# Altium footprint library 4.01-2.00mm排针-排母.PcbLib: 40 footprints (part 3 of 3)
Each footprint in its own frame and in the unit in brackets; x right, y up, seen from the top. Pads: shape width x height; smd on the part's side, far side on the other; paste and mask are expansions set on the pad; w line width, h text height; cw(c..) or ccw(c..) is an arc to the next point about the centre after c.
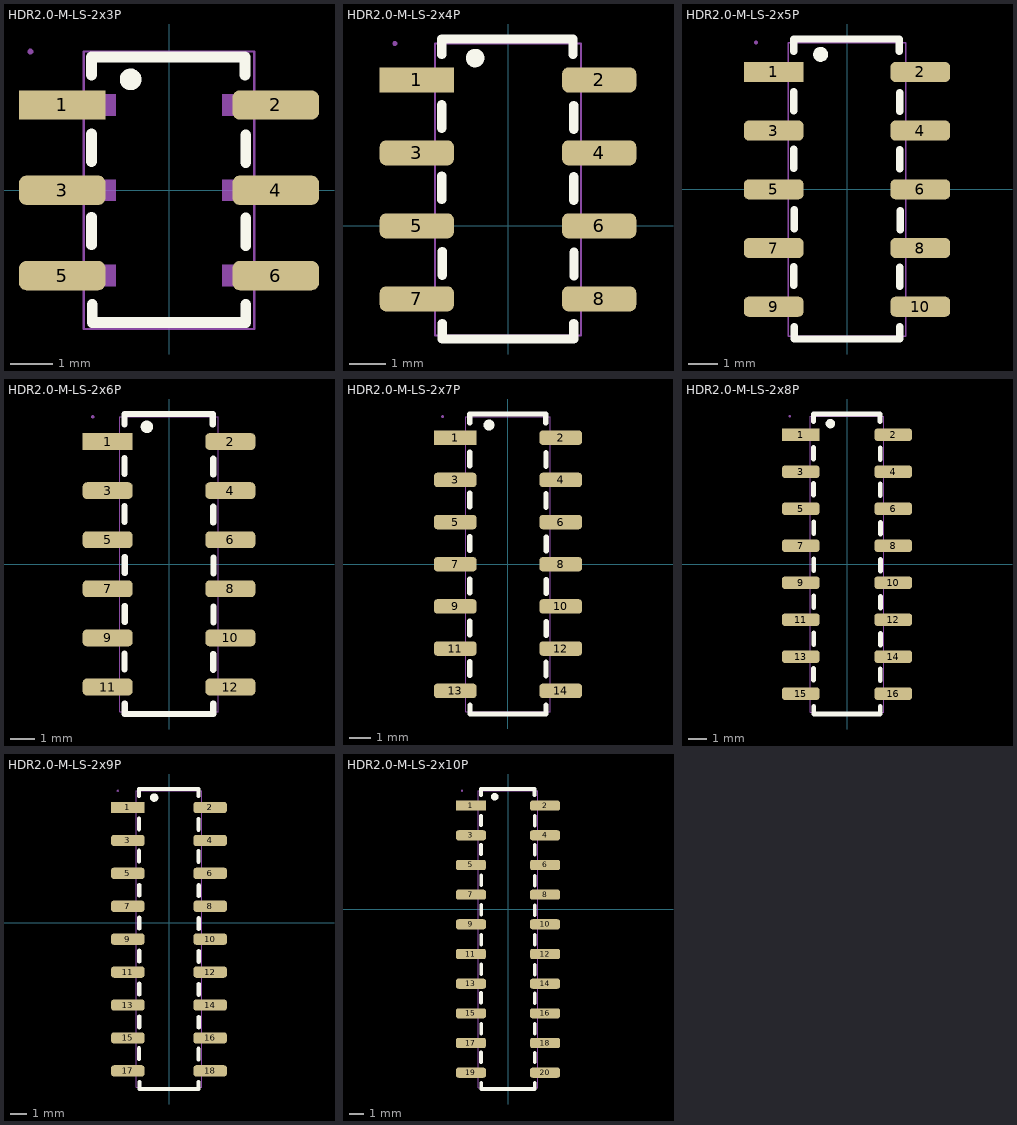
[diagram p2: the footprints below, top view; thin cyan lines are the x and y axes]

## HDR2.0-M-LS-2x3P [mil] "双排排母，SMD，2x3脚"
pads (6):
  rect 80x27 smd mask+2: 1(-98.43,78.74)
  rrect50% 80x27 smd mask+2: 2(98.43,78.74) 3(-98.43,0) 4(98.43,0) 5(-98.43,-78.74) 6(98.43,-78.74)
Top Overlay:
  circle w10: c-35.43,102.36 r5
  lines w10: -71.48,-50.29 -71.48,-24.79 ; -71.48,26.57 -71.48,52.07 ; -71.48,106.29 -71.48,122.93 70.25,122.93 70.25,106.29 ; -70.87,-105.4 -70.87,-122.05 70.87,-122.05 70.87,-105.4 ; 70.87,-51.18 70.87,-25.68 ; 70.87,25.68 70.87,51.18
Mechanical 15:
  region: -127.9,125.6 -126.91,125.6 -125.5,127.01 -125.5,128.99 -126.91,130.4 -127.9,130.4 -128.89,130.4 -130.3,128.99 -130.3,127.01 -128.89,125.6 -127.9,125.6
  region: 128,-68.9 128,-88.6 49.2,-88.6 49.2,-68.9
  region: 128,9.8 128,-9.8 49.2,-9.8 49.2,9.8
  region: 128,88.6 128,68.9 49.2,68.9 49.2,88.6
  region: -49.2,88.6 -49.2,68.9 -127.9,68.9 -127.9,88.6
  region: -49.2,9.8 -49.2,-9.8 -127.9,-9.8 -127.9,9.8
  region: -49.2,-68.9 -49.2,-88.6 -127.9,-88.6 -127.9,-68.9
  lines w2: -78.7,-128 78.7,-128 78.7,128 -78.7,128 -78.7,-128
3D body "HDR-SMD_6P-P2.00-V-F-R2-C3-LS6.5.step": height 181.1, standoff 0, extent -127.95,-127.94 127.95,127.95

## HDR2.0-M-LS-2x4P [mil] "双排排母，SMD，2x4脚"
pads (8):
  rect 80x27 smd mask+2: 1(-98.43,157.48)
  rrect50% 80x27 smd mask+2: 2(98.43,157.48) 3(-98.43,78.74) 4(98.43,78.74) 5(-98.43,0) 6(98.43,0) 7(-98.43,-78.74) 8(98.43,-78.74)
Top Overlay:
  circle w10: c-35.43,181.1 r5
  lines w10: -71.48,28.45 -71.48,53.95 ; -71.48,105.31 -71.48,130.81 ; -71.48,185.03 -71.48,201.67 70.25,201.67 70.25,185.03 ; -71.06,-53.19 -71.06,-27.69 ; -70.87,-105.4 -70.87,-122.05 70.87,-122.05 70.87,-105.4 ; 70.87,27.56 70.87,53.06 ; 70.87,104.42 70.87,129.92 ; 71.29,-54.07 71.29,-28.57
Mechanical 15:
  region: 70.9,167.4 122.1,167.4 122.1,147.7 70.9,147.7
  region: 70.9,88.7 122.1,88.7 122.1,69 70.9,69
  region: 70.9,10 122.1,10 122.1,-9.7 70.9,-9.7
  region: 70.9,-68.8 122.1,-68.8 122.1,-88.5 70.9,-88.5
  region: -122.1,-69 -70.9,-69 -70.9,-88.7 -122.1,-88.7
  region: -122.1,9.7 -70.9,9.7 -70.9,-10 -122.1,-10
  region: -122.1,88.5 -70.9,88.5 -70.9,68.8 -122.1,68.8
  region: -122.1,167.2 -70.9,167.2 -70.9,147.5 -122.1,147.5
  region: -119.7,196.9 -119.7,197.89 -121.11,199.3 -123.09,199.3 -124.5,197.89 -124.5,196.9 -124.5,195.91 -123.09,194.5 -121.11,194.5 -119.7,195.91 -119.7,196.9
  lines w2: -78.7,-118.16 -78.7,196.9 78.7,196.9 78.7,-118.16 -78.7,-118.16
3D body "CONN-SMD_X4621FVS-2X02-C43D65.step": height 181.1, standoff 0, extent -127.95,-127.94 127.95,49.22
3D body "CONN-SMD_X4621FVS-2X02-C43D65.step": height 181.1, standoff 0, extent -127.95,29.54 127.95,206.7

## HDR2.0-M-LS-2x5P [mil] "双排排母，SMD，2x5脚"
pads (10):
  rect 80x27 smd mask+2: 1(-98.43,157.48)
  rrect50% 80x27 smd mask+2: 2(98.43,157.48) 3(-98.43,78.74) 4(98.43,78.74) 5(-98.43,0) 6(98.43,0) 7(-98.43,-78.74) 8(98.43,-78.74) 9(-98.43,-157.48) 10(98.43,-157.48)
Top Overlay:
  circle w10: c-35.43,181.1 r5
  lines w10: -71.48,-129.03 -71.48,-103.53 ; -71.48,28.45 -71.48,53.95 ; -71.48,105.31 -71.48,130.81 ; -71.48,185.03 -71.48,201.67 70.25,201.67 70.25,185.03 ; -71.06,-53.19 -71.06,-27.69 ; -70.87,-184.14 -70.87,-200.79 70.87,-200.79 70.87,-184.14 ; 70.87,-129.92 70.87,-104.42 ; 70.87,27.56 70.87,53.06 ; 70.87,104.42 70.87,129.92 ; 71.29,-54.07 71.29,-28.57
Mechanical 15:
  region: 70.9,167.4 122.1,167.4 122.1,147.7 70.9,147.7
  region: 70.9,88.7 122.1,88.7 122.1,69 70.9,69
  region: 70.9,10 122.1,10 122.1,-9.7 70.9,-9.7
  region: 70.9,-68.8 122.1,-68.8 122.1,-88.5 70.9,-88.5
  region: 70.9,-147.5 122.1,-147.5 122.1,-167.2 70.9,-167.2
  region: -122.1,-147.7 -70.9,-147.7 -70.9,-167.4 -122.1,-167.4
  region: -122.1,-69 -70.9,-69 -70.9,-88.7 -122.1,-88.7
  region: -122.1,9.7 -70.9,9.7 -70.9,-10 -122.1,-10
  region: -122.1,88.5 -70.9,88.5 -70.9,68.8 -122.1,68.8
  region: -122.1,167.2 -70.9,167.2 -70.9,147.5 -122.1,147.5
  region: -119.7,196.9 -119.7,197.89 -121.11,199.3 -123.09,199.3 -124.5,197.89 -124.5,196.9 -124.5,195.91 -123.09,194.5 -121.11,194.5 -119.7,195.91 -119.7,196.9
  lines w2: -78.7,-196.9 -78.7,196.9 78.7,196.9 78.7,-196.9 -78.7,-196.9
3D body "HDR-SMD_6P-P2.00-V-F-R2-C3-LS6.5.step": height 181.1, standoff 0, extent -127.95,-206.68 127.95,49.21
3D body "HDR-SMD_6P-P2.00-V-F-R2-C3-LS6.5.step": height 181.1, standoff 0, extent -127.95,-49.2 127.95,206.69

## HDR2.0-M-LS-2x6P [mm] "双排排母，SMD，2x6脚"
pads (12):
  rect 2.032x0.686 smd mask+0.051: 1(-2.5,5)
  rrect50% 2.032x0.686 smd mask+0.051: 2(2.5,5) 3(-2.5,3) 4(2.5,3) 5(-2.5,1) 6(2.5,1) 7(-2.5,-1) 8(2.5,-1) 9(-2.5,-3) 10(2.5,-3) 11(-2.5,-5) 12(2.5,-5)
Top Overlay:
  circle w0.254: c-0.9,5.6 r0.127
  lines w0.254: -1.816,-4.277 -1.816,-3.63 ; -1.816,1.723 -1.816,2.37 ; -1.816,3.675 -1.816,4.323 ; -1.816,5.7 -1.816,6.123 1.784,6.123 1.784,5.7 ; -1.805,-2.351 -1.805,-1.703 ; -1.805,-0.351 -1.805,0.297 ; -1.8,-5.677 -1.8,-6.1 1.8,-6.1 1.8,-5.677 ; 1.8,-4.3 1.8,-3.652 ; 1.8,1.7 1.8,2.348 ; 1.8,3.652 1.8,4.3 ; 1.811,-2.373 1.811,-1.726 ; 1.811,-0.373 1.811,0.274
Mechanical 15:
  region: -3.101,-4.752 -1.801,-4.752 -1.801,-5.252 -3.101,-5.252
  region: 1.801,-4.746 3.101,-4.746 3.101,-5.247 1.801,-5.247
  region: 1.801,5.252 3.101,5.252 3.101,4.752 1.801,4.752
  region: 1.801,3.253 3.101,3.253 3.101,2.753 1.801,2.753
  region: 1.801,1.254 3.101,1.254 3.101,0.754 1.801,0.754
  region: 1.801,-0.748 3.101,-0.748 3.101,-1.248 1.801,-1.248
  region: 1.801,-2.746 3.101,-2.746 3.101,-3.247 1.801,-3.247
  region: -3.101,-2.752 -1.801,-2.752 -1.801,-3.252 -3.101,-3.252
  region: -3.101,-0.753 -1.801,-0.753 -1.801,-1.253 -3.101,-1.253
  region: -3.101,1.246 -1.801,1.246 -1.801,0.746 -3.101,0.746
  region: -3.101,3.248 -1.801,3.248 -1.801,2.748 -3.101,2.748
  region: -3.101,5.247 -1.801,5.247 -1.801,4.747 -3.101,4.747
  region: -3.04,6.001 -3.04,6.027 -3.076,6.062 -3.127,6.062 -3.162,6.027 -3.162,6.001 -3.162,5.976 -3.127,5.94 -3.076,5.94 -3.04,5.976 -3.04,6.001
  lines w0.051: -1.999,-6 1.999,-6 1.999,6.001 -1.999,6.001 -1.999,-6
3D body "HDR-SMD_6P-P2.00-V-F-R2-C3-LS6.5.step": height 4.6, standoff 0, extent -3.25,-6.25 3.25,0.25
3D body "HDR-SMD_6P-P2.00-V-F-R2-C3-LS6.5.step": height 4.6, standoff 0, extent -3.25,-0.25 3.25,6.25

## HDR2.0-M-LS-2x7P [mil] "双排排母，SMD，2x7脚"
pads (14):
  rect 80x27 smd mask+2: 1(-98.43,236.22)
  rrect50% 80x27 smd mask+2: 2(98.43,236.22) 3(-98.43,157.48) 4(98.43,157.48) 5(-98.43,78.74) 6(98.43,78.74) 7(-98.43,0) 8(98.43,0) 9(-98.43,-78.74) 10(98.43,-78.74) 11(-98.43,-157.48) 12(98.43,-157.48) 13(-98.43,-236.22) 14(98.43,-236.22)
Top Overlay:
  circle w10: c-35.43,259.84 r5
  lines w10: -71.48,-207.78 -71.48,-182.28 ; -71.48,107.19 -71.48,132.69 ; -71.48,184.05 -71.48,209.55 ; -71.48,263.77 -71.48,280.41 70.25,280.41 70.25,263.77 ; -71.06,-131.93 -71.06,-106.43 ; -71.06,-53.19 -71.06,-27.69 ; -71.06,25.55 -71.06,51.05 ; -70.87,-262.88 -70.87,-279.53 70.87,-279.53 70.87,-262.88 ; 70.87,-208.66 70.87,-183.16 ; 70.87,106.3 70.87,131.8 ; 70.87,183.16 70.87,208.66 ; 71.29,-132.81 71.29,-107.31 ; 71.29,-54.07 71.29,-28.57 ; 71.29,24.67 71.29,50.17
Mechanical 15:
  region: -119.7,275.64 -119.7,276.63 -121.11,278.04 -123.09,278.04 -124.5,276.63 -124.5,275.64 -124.5,274.65 -123.09,273.24 -121.11,273.24 -119.7,274.65 -119.7,275.64
  region: -122.1,245.94 -70.9,245.94 -70.9,226.24 -122.1,226.24
  region: -122.1,167.24 -70.9,167.24 -70.9,147.54 -122.1,147.54
  region: -122.1,88.44 -70.9,88.44 -70.9,68.74 -122.1,68.74
  region: -122.1,9.74 -70.9,9.74 -70.9,-9.96 -122.1,-9.96
  region: -122.1,-68.96 -70.9,-68.96 -70.9,-88.66 -122.1,-88.66
  region: 70.9,-68.76 122.1,-68.76 122.1,-88.46 70.9,-88.46
  region: 70.9,9.94 122.1,9.94 122.1,-9.76 70.9,-9.76
  region: 70.9,88.74 122.1,88.74 122.1,69.04 70.9,69.04
  region: 70.9,167.44 122.1,167.44 122.1,147.74 70.9,147.74
  region: 70.9,246.14 122.1,246.14 122.1,226.44 70.9,226.44
  region: 70.9,-147.5 122.1,-147.5 122.1,-167.2 70.9,-167.2
  region: -122.1,-147.7 -70.9,-147.7 -70.9,-167.4 -122.1,-167.4
  region: 70.9,-226.24 122.1,-226.24 122.1,-245.94 70.9,-245.94
  region: -122.1,-226.44 -70.9,-226.44 -70.9,-246.14 -122.1,-246.14
  lines w2: -78.7,-275.59 -78.7,275.64 78.7,275.64 78.7,-275.59 -78.7,-275.59
3D body "CONN-SMD_X4621FVS-2X02-C43D65.step": height 181.1, standoff 0, extent -127.95,-285.42 127.95,-108.26
3D body "CONN-SMD_X4621FVS-2X02-C43D65.step": height 181.1, standoff 0, extent -127.95,-206.68 127.95,-29.52
3D body "CONN-SMD_X4621FVS-2X02-C43D65.step": height 181.1, standoff 0, extent -127.95,-49.2 127.95,127.96
3D body "CONN-SMD_X4621FVS-2X02-C43D65.step": height 181.1, standoff 0, extent -127.95,108.28 127.95,285.44

## HDR2.0-M-LS-2x8P [mm] "双排排母，SMD，2x8脚"
pads (16):
  rect 2.032x0.686 smd mask+0.051: 1(-2.5,7)
  rrect50% 2.032x0.686 smd mask+0.051: 2(2.5,7) 3(-2.5,5) 4(2.5,5) 5(-2.5,3) 6(2.5,3) 7(-2.5,1) 8(2.5,1) 9(-2.5,-1) 10(2.5,-1) 11(-2.5,-3) 12(2.5,-3) 13(-2.5,-5) 14(2.5,-5) 15(-2.5,-7) 16(2.5,-7)
Top Overlay:
  circle w0.254: c-0.9,7.6 r0.127
  lines w0.254: -1.816,-6.277 -1.816,-5.63 ; -1.816,3.723 -1.816,4.37 ; -1.816,5.675 -1.816,6.323 ; -1.816,7.7 -1.816,8.123 1.784,8.123 1.784,7.7 ; -1.805,-4.351 -1.805,-3.703 ; -1.805,-2.351 -1.805,-1.703 ; -1.805,-0.351 -1.805,0.297 ; -1.805,1.649 -1.805,2.297 ; -1.8,-7.677 -1.8,-8.1 1.8,-8.1 1.8,-7.677 ; 1.8,-6.3 1.8,-5.652 ; 1.8,3.7 1.8,4.348 ; 1.8,5.652 1.8,6.3 ; 1.811,-4.373 1.811,-3.726 ; 1.811,-2.373 1.811,-1.726 ; 1.811,-0.373 1.811,0.274 ; 1.811,1.627 1.811,2.274
Mechanical 15:
  region: -3.04,8.001 -3.04,8.027 -3.076,8.062 -3.127,8.062 -3.162,8.027 -3.162,8.001 -3.162,7.976 -3.127,7.94 -3.076,7.94 -3.04,7.976 -3.04,8.001
  region: -3.101,7.247 -1.801,7.247 -1.801,6.747 -3.101,6.747
  region: -3.101,5.248 -1.801,5.248 -1.801,4.748 -3.101,4.748
  region: -3.101,3.246 -1.801,3.246 -1.801,2.746 -3.101,2.746
  region: -3.101,1.247 -1.801,1.247 -1.801,0.747 -3.101,0.747
  region: -3.101,-0.752 -1.801,-0.752 -1.801,-1.252 -3.101,-1.252
  region: 1.801,-0.746 3.101,-0.746 3.101,-1.247 1.801,-1.247
  region: 1.801,1.252 3.101,1.252 3.101,0.752 1.801,0.752
  region: 1.801,3.254 3.101,3.254 3.101,2.754 1.801,2.754
  region: 1.801,5.253 3.101,5.253 3.101,4.753 1.801,4.753
  region: 1.801,7.252 3.101,7.252 3.101,6.752 1.801,6.752
  region: 1.801,-2.746 3.101,-2.746 3.101,-3.247 1.801,-3.247
  region: -3.101,-2.752 -1.801,-2.752 -1.801,-3.252 -3.101,-3.252
  region: -3.101,-4.752 -1.801,-4.752 -1.801,-5.252 -3.101,-5.252
  region: 1.801,-4.746 3.101,-4.746 3.101,-5.247 1.801,-5.247
  region: 1.801,-6.746 3.101,-6.746 3.101,-7.247 1.801,-7.247
  region: -3.101,-6.752 -1.801,-6.752 -1.801,-7.252 -3.101,-7.252
  lines w0.051: -1.999,-8 -1.999,8.001 1.999,8.001 1.999,-8 -1.999,-8
3D body "CONN-SMD_X4621FVS-2X02-C43D65.step": height 4.6, standoff 0, extent -3.25,3.75 3.25,8.25
3D body "CONN-SMD_X4621FVS-2X02-C43D65.step": height 4.6, standoff 0, extent -3.25,-0.25 3.25,4.25
3D body "CONN-SMD_X4621FVS-2X02-C43D65.step": height 4.6, standoff 0, extent -3.25,-4.25 3.25,0.25
3D body "CONN-SMD_X4621FVS-2X02-C43D65.step": height 4.6, standoff 0, extent -3.25,-8.25 3.25,-3.75

## HDR2.0-M-LS-2x9P [mm] "双排排母，SMD，2x9脚"
pads (18):
  rect 2.032x0.686 smd mask+0.051: 1(-2.5,7)
  rrect50% 2.032x0.686 smd mask+0.051: 2(2.5,7) 3(-2.5,5) 4(2.5,5) 5(-2.5,3) 6(2.5,3) 7(-2.5,1) 8(2.5,1) 9(-2.5,-1) 10(2.5,-1) 11(-2.5,-3) 12(2.5,-3) 13(-2.5,-5) 14(2.5,-5) 15(-2.5,-7) 16(2.5,-7) 17(-2.5,-9) 18(2.5,-9)
Top Overlay:
  circle w0.254: c-0.9,7.6 r0.127
  lines w0.254: -1.816,-8.277 -1.816,-7.63 ; -1.816,3.723 -1.816,4.37 ; -1.816,5.675 -1.816,6.323 ; -1.816,7.7 -1.816,8.123 1.784,8.123 1.784,7.7 ; -1.805,-6.351 -1.805,-5.703 ; -1.805,-4.351 -1.805,-3.703 ; -1.805,-2.351 -1.805,-1.703 ; -1.805,-0.351 -1.805,0.297 ; -1.805,1.649 -1.805,2.297 ; -1.8,-9.677 -1.8,-10.1 1.8,-10.1 1.8,-9.677 ; 1.8,-8.3 1.8,-7.652 ; 1.8,3.7 1.8,4.348 ; 1.8,5.652 1.8,6.3 ; 1.811,-6.373 1.811,-5.726 ; 1.811,-4.373 1.811,-3.726 ; 1.811,-2.373 1.811,-1.726 ; 1.811,-0.373 1.811,0.274 ; 1.811,1.627 1.811,2.274
Mechanical 15:
  region: 1.801,-8.746 3.101,-8.746 3.101,-9.247 1.801,-9.247
  region: -3.101,-8.752 -1.801,-8.752 -1.801,-9.252 -3.101,-9.252
  region: -3.04,8.001 -3.04,8.027 -3.076,8.062 -3.127,8.062 -3.162,8.027 -3.162,8.001 -3.162,7.976 -3.127,7.94 -3.076,7.94 -3.04,7.976 -3.04,8.001
  region: -3.101,7.247 -1.801,7.247 -1.801,6.747 -3.101,6.747
  region: -3.101,5.248 -1.801,5.248 -1.801,4.748 -3.101,4.748
  region: -3.101,3.246 -1.801,3.246 -1.801,2.746 -3.101,2.746
  region: -3.101,1.247 -1.801,1.247 -1.801,0.747 -3.101,0.747
  region: -3.101,-0.752 -1.801,-0.752 -1.801,-1.252 -3.101,-1.252
  region: 1.801,-0.746 3.101,-0.746 3.101,-1.247 1.801,-1.247
  region: 1.801,1.252 3.101,1.252 3.101,0.752 1.801,0.752
  region: 1.801,3.254 3.101,3.254 3.101,2.754 1.801,2.754
  region: 1.801,5.253 3.101,5.253 3.101,4.753 1.801,4.753
  region: 1.801,7.252 3.101,7.252 3.101,6.752 1.801,6.752
  region: 1.801,-2.746 3.101,-2.746 3.101,-3.247 1.801,-3.247
  region: -3.101,-2.752 -1.801,-2.752 -1.801,-3.252 -3.101,-3.252
  region: -3.101,-4.752 -1.801,-4.752 -1.801,-5.252 -3.101,-5.252
  region: 1.801,-4.746 3.101,-4.746 3.101,-5.247 1.801,-5.247
  region: 1.801,-6.746 3.101,-6.746 3.101,-7.247 1.801,-7.247
  region: -3.101,-6.752 -1.801,-6.752 -1.801,-7.252 -3.101,-7.252
  lines w0.051: -1.999,-10 -1.999,-8 -1.999,8.001 1.999,8.001 1.999,-8 1.999,-10 -1.999,-10
3D body "HDR-SMD_6P-P2.00-V-F-R2-C3-LS6.5.step": height 4.6, standoff 0, extent -3.25,1.75 3.25,8.25
3D body "HDR-SMD_6P-P2.00-V-F-R2-C3-LS6.5.step": height 4.6, standoff 0, extent -3.25,-4.25 3.25,2.25
3D body "HDR-SMD_6P-P2.00-V-F-R2-C3-LS6.5.step": height 4.6, standoff 0, extent -3.25,-10.25 3.25,-3.75

## HDR2.0-M-LS-2x10P [mm] "双排排母，SMD，2x10脚"
pads (20):
  rect 2.032x0.686 smd mask+0.051: 1(-2.5,7)
  rrect50% 2.032x0.686 smd mask+0.051: 2(2.5,7) 3(-2.5,5) 4(2.5,5) 5(-2.5,3) 6(2.5,3) 7(-2.5,1) 8(2.5,1) 9(-2.5,-1) 10(2.5,-1) 11(-2.5,-3) 12(2.5,-3) 13(-2.5,-5) 14(2.5,-5) 15(-2.5,-7) 16(2.5,-7) 17(-2.5,-9) 18(2.5,-9) 19(-2.5,-11) 20(2.5,-11)
Top Overlay:
  circle w0.254: c-0.9,7.6 r0.127
  lines w0.254: -1.816,-10.277 -1.816,-9.63 ; -1.816,-6.277 -1.816,-5.63 ; -1.816,3.723 -1.816,4.37 ; -1.816,5.675 -1.816,6.323 ; -1.816,7.7 -1.816,8.123 1.784,8.123 1.784,7.7 ; -1.805,-8.351 -1.805,-7.703 ; -1.805,-4.351 -1.805,-3.703 ; -1.805,-2.351 -1.805,-1.703 ; -1.805,-0.351 -1.805,0.297 ; -1.805,1.649 -1.805,2.297 ; -1.8,-11.677 -1.8,-12.1 1.8,-12.1 1.8,-11.677 ; 1.8,-10.3 1.8,-9.652 ; 1.8,-6.3 1.8,-5.652 ; 1.8,3.7 1.8,4.348 ; 1.8,5.652 1.8,6.3 ; 1.811,-8.373 1.811,-7.726 ; 1.811,-4.373 1.811,-3.726 ; 1.811,-2.373 1.811,-1.726 ; 1.811,-0.373 1.811,0.274 ; 1.811,1.627 1.811,2.274
Mechanical 15:
  region: -3.101,-10.752 -1.801,-10.752 -1.801,-11.252 -3.101,-11.252
  region: 1.801,-10.746 3.101,-10.746 3.101,-11.247 1.801,-11.247
  region: 1.801,-8.747 3.101,-8.747 3.101,-9.247 1.801,-9.247
  region: -3.101,-8.752 -1.801,-8.752 -1.801,-9.252 -3.101,-9.252
  region: -3.101,-6.752 -1.801,-6.752 -1.801,-7.252 -3.101,-7.252
  region: 1.801,-6.746 3.101,-6.746 3.101,-7.247 1.801,-7.247
  region: 1.801,-4.746 3.101,-4.746 3.101,-5.247 1.801,-5.247
  region: -3.101,-4.752 -1.801,-4.752 -1.801,-5.252 -3.101,-5.252
  region: -3.101,-2.752 -1.801,-2.752 -1.801,-3.252 -3.101,-3.252
  region: 1.801,-2.746 3.101,-2.746 3.101,-3.247 1.801,-3.247
  region: 1.801,7.252 3.101,7.252 3.101,6.752 1.801,6.752
  region: 1.801,5.253 3.101,5.253 3.101,4.753 1.801,4.753
  region: 1.801,3.254 3.101,3.254 3.101,2.754 1.801,2.754
  region: 1.801,1.252 3.101,1.252 3.101,0.752 1.801,0.752
  region: 1.801,-0.746 3.101,-0.746 3.101,-1.247 1.801,-1.247
  region: -3.101,-0.752 -1.801,-0.752 -1.801,-1.252 -3.101,-1.252
  region: -3.101,1.247 -1.801,1.247 -1.801,0.747 -3.101,0.747
  region: -3.101,3.246 -1.801,3.246 -1.801,2.746 -3.101,2.746
  region: -3.101,5.248 -1.801,5.248 -1.801,4.748 -3.101,4.748
  region: -3.101,7.247 -1.801,7.247 -1.801,6.747 -3.101,6.747
  region: -3.04,8.001 -3.04,8.027 -3.076,8.062 -3.127,8.062 -3.162,8.027 -3.162,8.001 -3.162,7.976 -3.127,7.94 -3.076,7.94 -3.04,7.976 -3.04,8.001
  lines w0.051: -1.999,-12 1.999,-12 1.999,8.001 -1.999,8.001 -1.999,-12
3D body "CONN-SMD_X4621FVS-2X02-C43D65.step": height 4.6, standoff 0, extent -3.25,-12.25 3.25,-7.75
3D body "CONN-SMD_X4621FVS-2X02-C43D65.step": height 4.6, standoff 0, extent -3.25,-8.25 3.25,-3.75
3D body "CONN-SMD_X4621FVS-2X02-C43D65.step": height 4.6, standoff 0, extent -3.25,-4.25 3.25,0.25
3D body "CONN-SMD_X4621FVS-2X02-C43D65.step": height 4.6, standoff 0, extent -3.25,-0.25 3.25,4.25
3D body "CONN-SMD_X4621FVS-2X02-C43D65.step": height 4.6, standoff 0, extent -3.25,3.75 3.25,8.25